# EAGLE library part AD9833FUNCGEN (library Elektronik_lib)
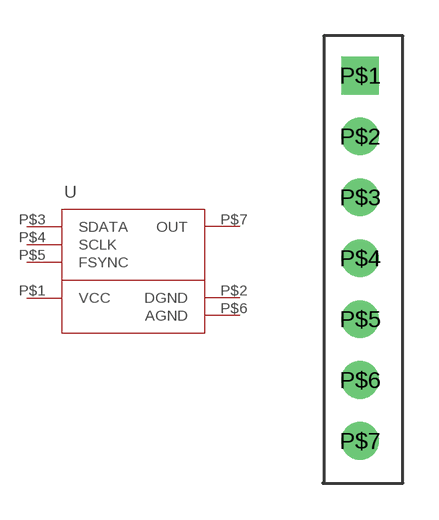
[diagram p14: symbol with the pads of AD9833FUNCGEN; footprint AD9833FUNCGEN]

Designator prefix -

## AD9833FUNCGEN  [AD9833FUNCGEN]
P$1  VCC
P$2  DGND
P$3  SDATA
P$4  SCLK
P$5  FSYNC
P$6  AGND
P$7  OUT

## Footprint AD9833FUNCGEN (pad centres in mm)
drill 1.05 square: P$1 0,0
drill 1.05: P$2 0,-2.54; P$3 0,-5.08; P$4 0,-7.62; P$5 0,-10.16; P$6 0,-12.7; P$7 0,-15.24